# EAGLE library part NJM11100F1 (library NJM11100F1)
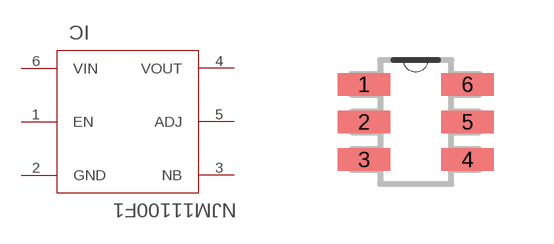
[diagram p0: symbol with the pads of SOT95P270X145-6N; footprint SOT95P270X145-6N]

Designator prefix IC

## NJM11100F1  [SOT95P270X145-6N]
1  EN  pas
2  GND  pas
3  NB  pas
4  VOUT  out
5  ADJ  pas
6  VIN  pas

## Footprint SOT95P270X145-6N (pad centres in mm)
smd 1.321 x 0.559: 1 -1.295,0.94; 2 -1.295,0; 3 -1.295,-0.94; 4 1.295,-0.94; 5 1.295,0; 6 1.295,0.94